# Altium footprint library PCB - LEADLESS - DFN - ST uQFN6L.PcbLib: 1 footprints
Each footprint in its own frame and in the unit in brackets; x right, y up, seen from the top. Pads: shape width x height; smd on the part's side, far side on the other; paste and mask are expansions set on the pad; w line width, h text height; cw(c..) or ccw(c..) is an arc to the next point about the centre after c.
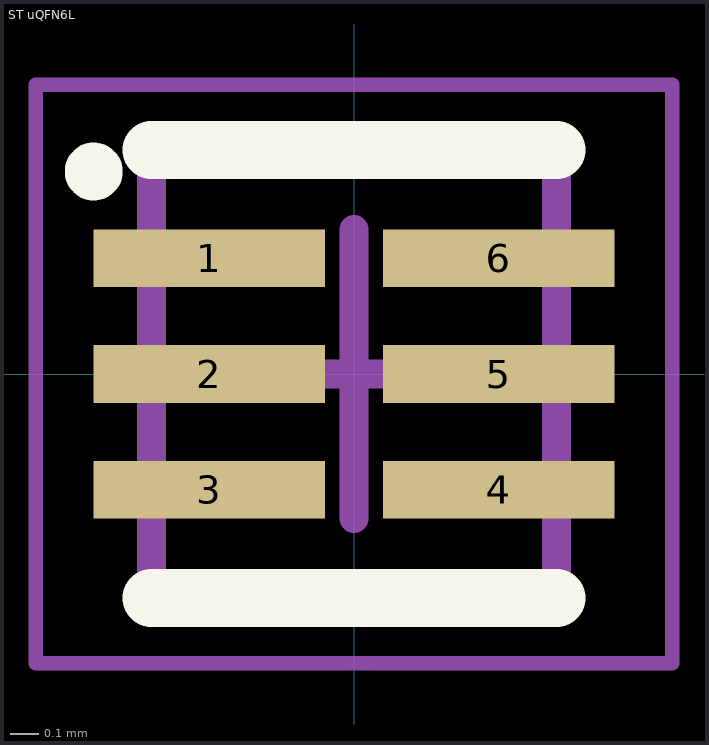
[diagram p0: the footprint, top view; thin cyan lines are the x and y axes]

## ST uQFN6L [mm] "DFN, 6-Leads, Body 1.40x1.35mm, Pitch 0.40mm"
height 0.5
pads (6):
  rect 0.8x0.2 smd: 1(-0.5,0.4) 2(-0.5,0) 3(-0.5,-0.4) 4(0.5,-0.4) 5(0.5,0) 6(0.5,0.4)
Top Overlay:
  circle w0.1: c-0.9,0.7 r0.05
  lines w0.2: -0.7,-0.775 0.7,-0.775 ; -0.7,0.775 0.7,0.775
Mechanical 13:
  lines w0.1: -0.7,-0.725 -0.7,0.725 0.7,0.725 0.7,-0.725 -0.7,-0.725
Mechanical 15:
  lines w0.05: -1.1,-1 -1.1,1 1.1,1 1.1,-1 -1.1,-1
  lines w0.1: -0.5,0 0.5,0 ; 0,-0.5 0,0.5
3D body "ST uQFN6L.step": height 0.5, standoff 0, extent -0.701,-0.725 0.701,0.725